# Altium footprint library IPT015N10N5.PcbLib: 1 footprints
Each footprint in its own frame and in the unit in brackets; x right, y up, seen from the top. Pads: shape width x height; smd on the part's side, far side on the other; paste and mask are expansions set on the pad; w line width, h text height; cw(c..) or ccw(c..) is an arc to the next point about the centre after c.
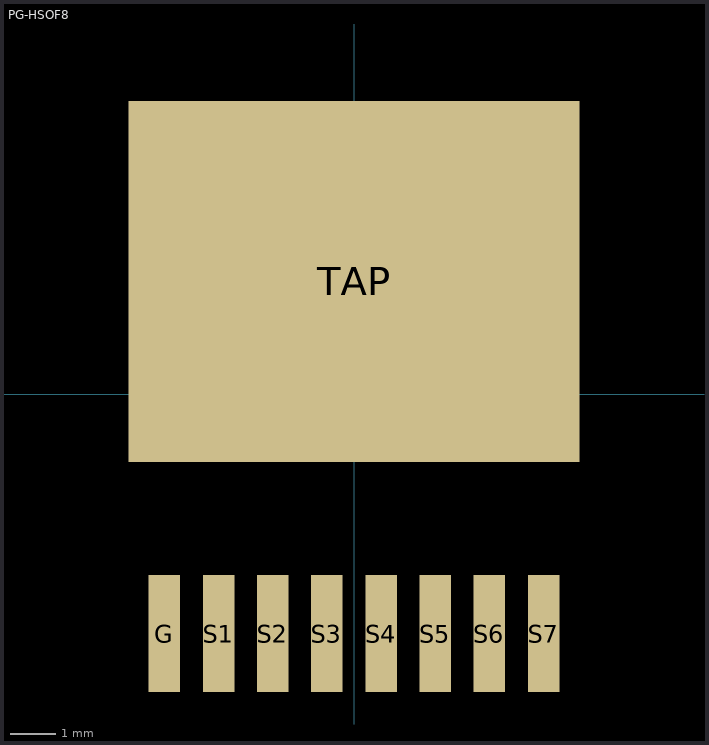
[diagram p0: the footprint, top view; thin cyan lines are the x and y axes]

## PG-HSOF8 [mm]
pads (9):
  rect 0.7x2.6 smd: G(-4.2,-5.3) S1(-3,-5.3) S2(-1.8,-5.3) S3(-0.6,-5.3) S4(0.6,-5.3) S5(1.8,-5.3) S6(3,-5.3) S7(4.2,-5.3)
  rect 10x8 smd: TAP(0,2.5)
3D body "step_temp.STEP": height 2.4, standoff 0, extent -5.837,-4.95 5.837,4.95